# Altium integrated library Memory - EEPROM.IntLib: 163 symbols (part 2 of 3)
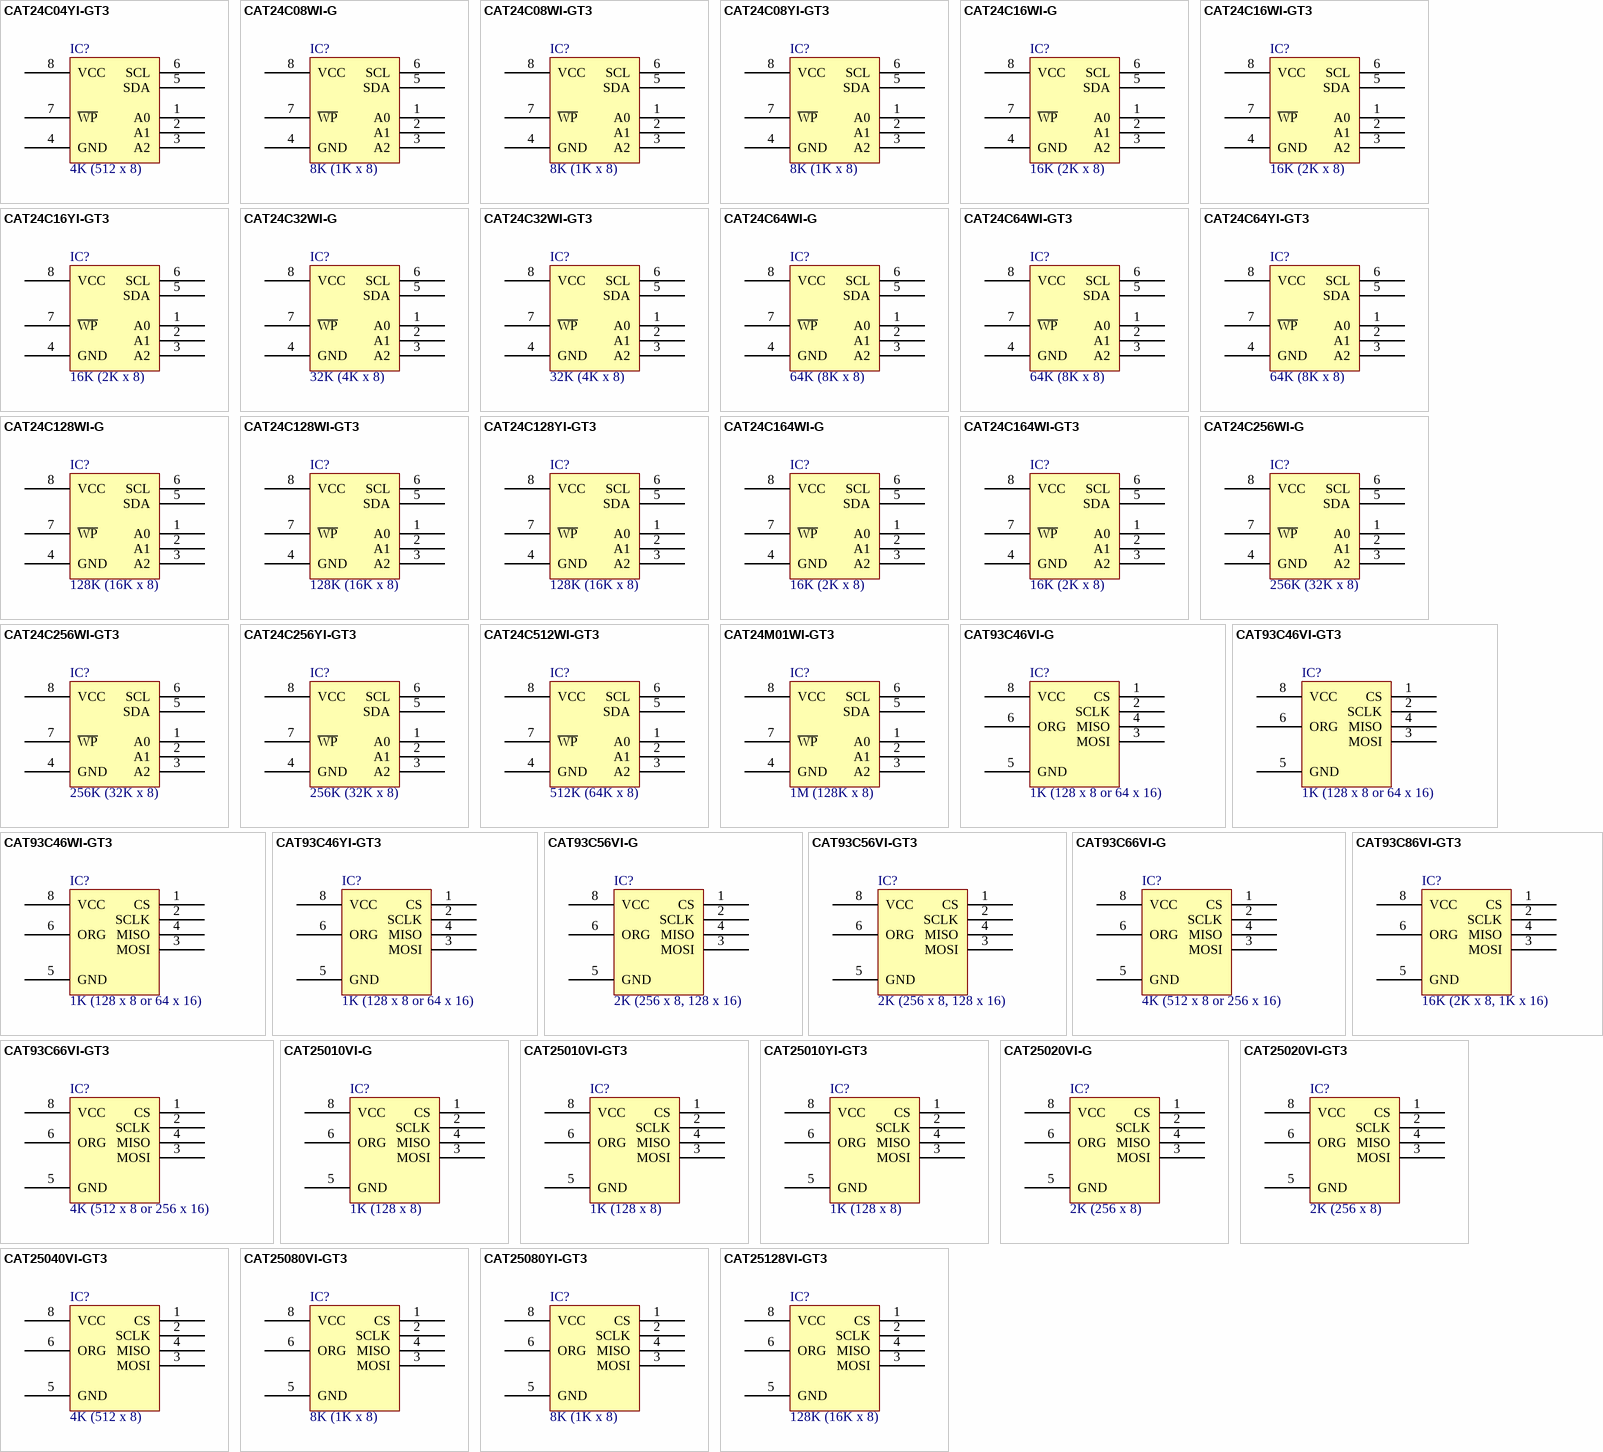
[diagram p5: symbols CAT24C04YI-GT3 to CAT25128VI-GT3]

## CAT24C512WI-GT3
designator IC?, comment 512K (64K x 8)
IC EEPROM 512KBIT 1MHZ 8SOIC; Part Number: CAT24C512WI-GT3; Manufacturer: ON Semiconductor; Speed: 100kHz, 400kHz, 1MHz; Interface: IC, 2-Wire Serial; Voltage - Supply: 1.8 V ~ 5.5 V; PartId: 8378; Supplier 1: Digi-Key; Supplier Part Number 1: CAT24C512WI-GT3OSTR-ND; ComponentLink1Description: Datasheet; ComponentLink1URL: http://www.onsemi.com/pub_link/Collateral/CAT24C512-D.PDF; ComponentLink2Description: Digi-Key Listing; ComponentLink2URL: http://www.digikey.com/product-detail/en/CAT24C512WI-GT3/CAT24C512WI-GT3OSTR-ND/2683757; Price: 0.4186; Type: EEPROM; Device Package: 8-SOIC (0.154", 3.90mm Width); Operating Temperature: -40C ~ 85C; Memory Type: EEPROM; Memory Size: 512K (64K x 8)
footprint ON SEMI SO-8
pins: 1 A0, 2 A1, 3 A2, 4 GND, 5 SDA, 6 SCL, 7 ~{WP}, 8 VCC

## CAT24M01WI-GT3
designator IC?, comment 1M (128K x 8)
IC EEPROM 1MBIT 1MHZ 8SOIC; Part Number: CAT24M01WI-GT3; Manufacturer: ON Semiconductor; Speed: 100kHz, 400kHz, 1MHz; Interface: IC, 2-Wire Serial; Voltage - Supply: 1.8 V ~ 5.5 V; PartId: 8381; Supplier 1: Digi-Key; Supplier Part Number 1: CAT24M01WI-GT3OSTR-ND; ComponentLink1Description: Datasheet; ComponentLink1URL: http://www.onsemi.com/pub_link/Collateral/CAT24M01-D.PDF; ComponentLink2Description: Digi-Key Listing; ComponentLink2URL: http://www.digikey.com/product-detail/en/CAT24M01WI-GT3/CAT24M01WI-GT3OSTR-ND/2698334; Price: 0.8073; Type: EEPROM; Device Package: 8-SOIC (0.154", 3.90mm Width); Operating Temperature: -40C ~ 85C; Memory Type: EEPROM; Memory Size: 1M (128K x 8)
footprint ON SEMI SO-8
pins: 1 A0, 2 A1, 3 A2, 4 GND, 5 SDA, 6 SCL, 7 ~{WP}, 8 VCC

## CAT93C46VI-G
designator IC?, comment 1K (128 x 8 or 64 x 16)
IC EEPROM 1KBIT 2MHZ 8SOIC; Part Number: CAT93C46VI-G; Manufacturer: ON Semiconductor; Interface: Microwire, 3-Wire Serial; Voltage - Supply: 1.8 V ~ 5.5 V; PartId: 8409; Supplier 1: Digi-Key; Supplier Part Number 1: CAT93C46VI-G-ND; ComponentLink1Description: Datasheet; ComponentLink1URL: http://www.onsemi.com/pub_link/Collateral/CAT93C46-D.PDF; ComponentLink2Description: Digi-Key Listing; ComponentLink2URL: http://www.digikey.com/product-detail/en/CAT93C46VI-G/CAT93C46VI-G-ND/2061039; Price: 0.4; Type: EEPROM; Device Package: 8-SOIC (0.154", 3.90mm Width); Operating Temperature: -40C ~ 85C; Memory Type: EEPROM; Memory Size: 1K (128 x 8 or 64 x 16); Speed: 2MHz
footprint ON SEMI SO-8
pins: 1 CS, 2 SCLK, 3 MOSI, 4 MISO, 5 GND, 6 ORG, 8 VCC

## CAT93C46VI-GT3
designator IC?, comment 1K (128 x 8 or 64 x 16)
IC EEPROM 1KBIT 2MHZ 8SOIC; Part Number: CAT93C46VI-GT3; Manufacturer: ON Semiconductor; Interface: Microwire, 3-Wire Serial; Voltage - Supply: 1.8 V ~ 5.5 V; PartId: 8400; Supplier 1: Digi-Key; Supplier Part Number 1: CAT93C46VI-GT3TR-ND; ComponentLink1Description: Datasheet; ComponentLink1URL: http://www.onsemi.com/pub_link/Collateral/CAT93C46-D.PDF; ComponentLink2Description: Digi-Key Listing; ComponentLink2URL: http://www.digikey.com/product-detail/en/CAT93C46VI-GT3/CAT93C46VI-GT3TR-ND/1631112; Price: 0.1082; Type: EEPROM; Device Package: 8-SOIC (0.154", 3.90mm Width); Operating Temperature: -40C ~ 85C; Memory Type: EEPROM; Memory Size: 1K (128 x 8 or 64 x 16); Speed: 2MHz
footprint ON SEMI SO-8
pins: 1 CS, 2 SCLK, 3 MOSI, 4 MISO, 5 GND, 6 ORG, 8 VCC

## CAT93C46WI-GT3
designator IC?, comment 1K (128 x 8 or 64 x 16)
IC EEPROM 1KBIT 2MHZ 8SOIC; Part Number: CAT93C46WI-GT3; Manufacturer: ON Semiconductor; Interface: Microwire, 3-Wire Serial; Voltage - Supply: 1.8 V ~ 5.5 V; PartId: 8401; Supplier 1: Digi-Key; Supplier Part Number 1: CAT93C46WI-GT3TR-ND; ComponentLink1Description: Datasheet; ComponentLink1URL: http://www.onsemi.com/pub_link/Collateral/CAT93C46-D.PDF; ComponentLink2Description: Digi-Key Listing; ComponentLink2URL: http://www.digikey.com/product-detail/en/CAT93C46WI-GT3/CAT93C46WI-GT3TR-ND/1631113; Price: 0.1082; Type: EEPROM; Device Package: 8-SOIC (0.154", 3.90mm Width); Operating Temperature: -40C ~ 85C; Memory Type: EEPROM; Memory Size: 1K (128 x 8 or 64 x 16); Speed: 2MHz
footprint ON SEMI SO-8
pins: 1 CS, 2 SCLK, 3 MOSI, 4 MISO, 5 GND, 6 ORG, 8 VCC

## CAT93C46YI-GT3
designator IC?, comment 1K (128 x 8 or 64 x 16)
IC EEPROM 1KBIT 2MHZ 8TSSOP; Part Number: CAT93C46YI-GT3; Manufacturer: ON Semiconductor; Interface: Microwire, 3-Wire Serial; Voltage - Supply: 1.8 V ~ 5.5 V; PartId: 8440; Supplier 1: Digi-Key; Supplier Part Number 1: CAT93C46YI-GT3OSTR-ND; ComponentLink1Description: Datasheet; ComponentLink1URL: http://www.onsemi.com/pub_link/Collateral/CAT93C46-D.PDF; ComponentLink2Description: Digi-Key Listing; ComponentLink2URL: http://www.digikey.com/product-detail/en/CAT93C46YI-GT3/CAT93C46YI-GT3OSTR-ND/2063388; Price: 0.1082; Type: EEPROM; Device Package: 8-TSSOP (0.173", 4.40mm Width); Operating Temperature: -40C ~ 85C; Memory Type: EEPROM; Memory Size: 1K (128 x 8 or 64 x 16); Speed: 2MHz
footprint ON SEMI TSSOP-8
pins: 1 CS, 2 SCLK, 3 MOSI, 4 MISO, 5 GND, 6 ORG, 8 VCC

## CAT93C56VI-G
designator IC?, comment 2K (256 x 8, 128 x 16)
IC EEPROM 2KBIT 2MHZ 8SOIC; Part Number: CAT93C56VI-G; Manufacturer: ON Semiconductor; Interface: Microwire, 3-Wire Serial; Voltage - Supply: 1.8 V ~ 5.5 V; PartId: 8413; Supplier 1: Digi-Key; Supplier Part Number 1: CAT93C56VI-GOS-ND; ComponentLink1Description: Datasheet; ComponentLink1URL: http://www.onsemi.com/pub_link/Collateral/CAT93C56-D.PDF; ComponentLink2Description: Digi-Key Listing; ComponentLink2URL: http://www.digikey.com/product-detail/en/CAT93C56VI-G/CAT93C56VI-GOS-ND/1770694; Price: 0.49; Type: EEPROM; Device Package: 8-SOIC (0.154", 3.90mm Width); Operating Temperature: -40C ~ 85C; Memory Type: EEPROM; Memory Size: 2K (256 x 8, 128 x 16); Speed: 2MHz
footprint ON SEMI SO-8
pins: 1 CS, 2 SCLK, 3 MOSI, 4 MISO, 5 GND, 6 ORG, 8 VCC

## CAT93C56VI-GT3
designator IC?, comment 2K (256 x 8, 128 x 16)
IC EEPROM 2KBIT 2MHZ 8SOIC; Part Number: CAT93C56VI-GT3; Manufacturer: ON Semiconductor; Interface: Microwire, 3-Wire Serial; Voltage - Supply: 1.8 V ~ 5.5 V; PartId: 8403; Supplier 1: Digi-Key; Supplier Part Number 1: CAT93C56VI-GT3OSTR-ND; ComponentLink1Description: Datasheet; ComponentLink1URL: http://www.onsemi.com/pub_link/Collateral/CAT93C56-D.PDF; ComponentLink2Description: Digi-Key Listing; ComponentLink2URL: http://www.digikey.com/product-detail/en/CAT93C56VI-GT3/CAT93C56VI-GT3OSTR-ND/1770695; Price: 0.1328; Type: EEPROM; Device Package: 8-SOIC (0.154", 3.90mm Width); Operating Temperature: -40C ~ 85C; Memory Type: EEPROM; Memory Size: 2K (256 x 8, 128 x 16); Speed: 2MHz
footprint ON SEMI SO-8
pins: 1 CS, 2 SCLK, 3 MOSI, 4 MISO, 5 GND, 6 ORG, 8 VCC

## CAT93C66VI-G
designator IC?, comment 4K (512 x 8 or 256 x 16)
IC EEPROM 4KBIT 2MHZ 8SOIC; Part Number: CAT93C66VI-G; Manufacturer: ON Semiconductor; Interface: Microwire, 3-Wire Serial; Voltage - Supply: 1.8 V ~ 5.5 V; PartId: 8414; Supplier 1: Digi-Key; Supplier Part Number 1: CAT93C66VI-GOS-ND; ComponentLink1Description: Datasheet; ComponentLink1URL: http://www.onsemi.com/pub_link/Collateral/CAT93C66-D.PDF; ComponentLink2Description: Digi-Key Listing; ComponentLink2URL: http://www.digikey.com/product-detail/en/CAT93C66VI-G/CAT93C66VI-GOS-ND/2061042; Price: 0.53; Type: EEPROM; Device Package: 8-SOIC (0.154", 3.90mm Width); Operating Temperature: -40C ~ 85C; Memory Type: EEPROM; Memory Size: 4K (512 x 8 or 256 x 16); Speed: 2MHz
footprint ON SEMI SO-8
pins: 1 CS, 2 SCLK, 3 MOSI, 4 MISO, 5 GND, 6 ORG, 8 VCC

## CAT93C66VI-GT3
designator IC?, comment 4K (512 x 8 or 256 x 16)
IC EEPROM 4KBIT 2MHZ 8SOIC; Part Number: CAT93C66VI-GT3; Manufacturer: ON Semiconductor; Interface: Microwire, 3-Wire Serial; Voltage - Supply: 1.8 V ~ 5.5 V; PartId: 8406; Supplier 1: Digi-Key; Supplier Part Number 1: CAT93C66VI-GT3OSTR-ND; ComponentLink1Description: Datasheet; ComponentLink1URL: http://www.onsemi.com/pub_link/Collateral/CAT93C66-D.PDF; ComponentLink2Description: Digi-Key Listing; ComponentLink2URL: http://www.digikey.com/product-detail/en/CAT93C66VI-GT3/CAT93C66VI-GT3OSTR-ND/1631117; Price: 0.1424; Type: EEPROM; Device Package: 8-SOIC (0.154", 3.90mm Width); Operating Temperature: -40C ~ 85C; Memory Type: EEPROM; Memory Size: 4K (512 x 8 or 256 x 16); Speed: 2MHz
footprint ON SEMI SO-8
pins: 1 CS, 2 SCLK, 3 MOSI, 4 MISO, 5 GND, 6 ORG, 8 VCC

## CAT93C86VI-GT3
designator IC?, comment 16K (2K x 8, 1K x 16)
IC EEPROM 16KBIT 3MHZ 8SOIC; Part Number: CAT93C86VI-GT3; Manufacturer: ON Semiconductor; Interface: Microwire, 3-Wire Serial; Voltage - Supply: 2.5 V ~ 5.5 V; PartId: 8410; Supplier 1: Digi-Key; Supplier Part Number 1: CAT93C86VI-GT3TR-ND; ComponentLink1Description: Datasheet; ComponentLink1URL: http://www.onsemi.com/PowerSolutions/product.do?id=CAT93C86&pdf=Y; ComponentLink2Description: Digi-Key Listing; ComponentLink2URL: http://www.digikey.com/product-detail/en/CAT93C86VI-GT3/CAT93C86VI-GT3TR-ND/1631120; Price: 0.1782; Type: EEPROM; Device Package: 8-SOIC (0.154", 3.90mm Width); Operating Temperature: -40C ~ 85C; Memory Type: EEPROM; Memory Size: 16K (2K x 8, 1K x 16); Speed: 3MHz
footprint ON SEMI SO-8
pins: 1 CS, 2 SCLK, 3 MOSI, 4 MISO, 5 GND, 6 ORG, 8 VCC

## CAT25010VI-G
designator IC?, comment 1K (128 x 8)
IC EEPROM 1KBIT 20MHZ 8SOIC; Part Number: CAT25010VI-G; Manufacturer: ON Semiconductor; Interface: SPI Serial; Voltage - Supply: 1.8 V ~ 5.5 V; PartId: 8412; Supplier 1: Digi-Key; Supplier Part Number 1: CAT25010VI-G-ND; ComponentLink1Description: Datasheet; ComponentLink1URL: http://www.onsemi.com/pub_link/Collateral/CAT25010-D.PDF; ComponentLink2Description: Digi-Key Listing; ComponentLink2URL: http://www.digikey.com/product-detail/en/CAT25010VI-G/CAT25010VI-G-ND/2061013; Price: 0.49; Type: EEPROM; Device Package: 8-SOIC (0.154", 3.90mm Width); Operating Temperature: -40C ~ 85C; Memory Type: EEPROM; Memory Size: 1K (128 x 8); Speed: 20MHz
footprint ON SEMI SO-8
pins: 1 CS, 2 SCLK, 3 MOSI, 4 MISO, 5 GND, 6 ORG, 8 VCC

## CAT25010VI-GT3
designator IC?, comment 1K (128 x 8)
IC EEPROM 1KBIT 20MHZ 8SOIC; Part Number: CAT25010VI-GT3; Manufacturer: ON Semiconductor; Interface: SPI Serial; Voltage - Supply: 1.8 V ~ 5.5 V; PartId: 8402; Supplier 1: Digi-Key; Supplier Part Number 1: CAT25010VI-GT3TR-ND; ComponentLink1Description: Datasheet; ComponentLink1URL: http://www.onsemi.com/pub_link/Collateral/CAT25010-D.PDF; ComponentLink2Description: Digi-Key Listing; ComponentLink2URL: http://www.digikey.com/product-detail/en/CAT25010VI-GT3/CAT25010VI-GT3TR-ND/1631013; Price: 0.129; Type: EEPROM; Device Package: 8-SOIC (0.154", 3.90mm Width); Operating Temperature: -40C ~ 85C; Memory Type: EEPROM; Memory Size: 1K (128 x 8); Speed: 20MHz
footprint ON SEMI SO-8
pins: 1 CS, 2 SCLK, 3 MOSI, 4 MISO, 5 GND, 6 ORG, 8 VCC

## CAT25010YI-GT3
designator IC?, comment 1K (128 x 8)
IC EEPROM 1KBIT 20MHZ 8TSSOP; Part Number: CAT25010YI-GT3; Manufacturer: ON Semiconductor; Interface: SPI Serial; Voltage - Supply: 1.8 V ~ 5.5 V; PartId: 8437; Supplier 1: Digi-Key; Supplier Part Number 1: CAT25010YI-GT3TR-ND; ComponentLink1Description: Datasheet; ComponentLink1URL: http://www.onsemi.com/pub_link/Collateral/CAT25010-D.PDF; ComponentLink2Description: Digi-Key Listing; ComponentLink2URL: http://www.digikey.com/product-detail/en/CAT25010YI-GT3/CAT25010YI-GT3TR-ND/1631014; Price: 0.129; Type: EEPROM; Device Package: 8-TSSOP (0.173", 4.40mm Width); Operating Temperature: -40C ~ 85C; Memory Type: EEPROM; Memory Size: 1K (128 x 8); Speed: 20MHz
footprint ON SEMI TSSOP-8
pins: 1 CS, 2 SCLK, 3 MOSI, 4 MISO, 5 GND, 6 ORG, 8 VCC

## CAT25020VI-G
designator IC?, comment 2K (256 x 8)
IC EEPROM 2KBIT 20MHZ 8SOIC; Part Number: CAT25020VI-G; Manufacturer: ON Semiconductor; Interface: SPI Serial; Voltage - Supply: 1.8 V ~ 5.5 V; PartId: 8411; Supplier 1: Digi-Key; Supplier Part Number 1: CAT25020VI-G-ND; ComponentLink1Description: Datasheet; ComponentLink1URL: http://www.onsemi.com/pub_link/Collateral/CAT25010-D.PDF; ComponentLink2Description: Digi-Key Listing; ComponentLink2URL: http://www.digikey.com/product-detail/en/CAT25020VI-G/CAT25020VI-G-ND/2061015; Price: 0.47; Type: EEPROM; Device Package: 8-SOIC (0.154", 3.90mm Width); Operating Temperature: -40C ~ 85C; Memory Type: EEPROM; Memory Size: 2K (256 x 8); Speed: 20MHz
footprint ON SEMI SO-8
pins: 1 CS, 2 SCLK, 3 MOSI, 4 MISO, 5 GND, 6 ORG, 8 VCC

## CAT25020VI-GT3
designator IC?, comment 2K (256 x 8)
IC EEPROM 2KBIT 20MHZ 8SOIC; Part Number: CAT25020VI-GT3; Manufacturer: ON Semiconductor; Interface: SPI Serial; Voltage - Supply: 1.8 V ~ 5.5 V; PartId: 8404; Supplier 1: Digi-Key; Supplier Part Number 1: CAT25020VI-GT3OSTR-ND; ComponentLink1Description: Datasheet; ComponentLink1URL: http://www.onsemi.com/pub_link/Collateral/CAT25010-D.PDF; ComponentLink2Description: Digi-Key Listing; ComponentLink2URL: http://www.digikey.com/product-detail/en/CAT25020VI-GT3/CAT25020VI-GT3OSTR-ND/1631016; Price: 0.1328; Type: EEPROM; Device Package: 8-SOIC (0.154", 3.90mm Width); Operating Temperature: -40C ~ 85C; Memory Type: EEPROM; Memory Size: 2K (256 x 8); Speed: 20MHz
footprint ON SEMI SO-8
pins: 1 CS, 2 SCLK, 3 MOSI, 4 MISO, 5 GND, 6 ORG, 8 VCC

## CAT25040VI-GT3
designator IC?, comment 4K (512 x 8)
IC EEPROM 4KBIT 20MHZ 8SOIC; Part Number: CAT25040VI-GT3; Manufacturer: ON Semiconductor; Interface: SPI Serial; Voltage - Supply: 1.8 V ~ 5.5 V; PartId: 8405; Supplier 1: Digi-Key; Supplier Part Number 1: CAT25040VI-GT3TR-ND; ComponentLink1Description: Datasheet; ComponentLink1URL: http://www.onsemi.com/pub_link/Collateral/CAT25010-D.PDF; ComponentLink2Description: Digi-Key Listing; ComponentLink2URL: http://www.digikey.com/product-detail/en/CAT25040VI-GT3/CAT25040VI-GT3TR-ND/1631019; Price: 0.1424; Type: EEPROM; Device Package: 8-SOIC (0.154", 3.90mm Width); Operating Temperature: -40C ~ 85C; Memory Type: EEPROM; Memory Size: 4K (512 x 8); Speed: 20MHz
footprint ON SEMI SO-8
pins: 1 CS, 2 SCLK, 3 MOSI, 4 MISO, 5 GND, 6 ORG, 8 VCC

## CAT25080VI-GT3
designator IC?, comment 8K (1K x 8)
IC EEPROM 8KBIT 20MHZ 8SOIC; Part Number: CAT25080VI-GT3; Manufacturer: ON Semiconductor; Interface: SPI Serial; Voltage - Supply: 1.8 V ~ 5.5 V; PartId: 8407; Supplier 1: Digi-Key; Supplier Part Number 1: CAT25080VI-GT3OSTR-ND; ComponentLink1Description: Datasheet; ComponentLink1URL: http://www.onsemi.com/pub_link/Collateral/CAT25080-D.PDF; ComponentLink2Description: Digi-Key Listing; ComponentLink2URL: http://www.digikey.com/product-detail/en/CAT25080VI-GT3/CAT25080VI-GT3OSTR-ND/1631022; Price: 0.1426; Type: EEPROM; Device Package: 8-SOIC (0.154", 3.90mm Width); Operating Temperature: -40C ~ 85C; Memory Type: EEPROM; Memory Size: 8K (1K x 8); Speed: 20MHz
footprint ON SEMI SO-8
pins: 1 CS, 2 SCLK, 3 MOSI, 4 MISO, 5 GND, 6 ORG, 8 VCC

## CAT25080YI-GT3
designator IC?, comment 8K (1K x 8)
IC EEPROM 8KBIT 20MHZ 8TSSOP; Part Number: CAT25080YI-GT3; Manufacturer: ON Semiconductor; Interface: SPI Serial; Voltage - Supply: 1.8 V ~ 5.5 V; PartId: 8434; Supplier 1: Digi-Key; Supplier Part Number 1: CAT25080YI-GT3TR-ND; ComponentLink1Description: Datasheet; ComponentLink1URL: http://www.onsemi.com/pub_link/Collateral/CAT25080-D.PDF; ComponentLink2Description: Digi-Key Listing; ComponentLink2URL: http://www.digikey.com/product-detail/en/CAT25080YI-GT3/CAT25080YI-GT3TR-ND/1631023; Price: 0.1426; Type: EEPROM; Device Package: 8-TSSOP (0.173", 4.40mm Width); Operating Temperature: -40C ~ 85C; Memory Type: EEPROM; Memory Size: 8K (1K x 8); Speed: 20MHz
footprint ON SEMI TSSOP-8
pins: 1 CS, 2 SCLK, 3 MOSI, 4 MISO, 5 GND, 6 ORG, 8 VCC

## CAT25128VI-GT3
designator IC?, comment 128K (16K x 8)
IC EEPROM 128KBIT 10MHZ 8SOIC; Part Number: CAT25128VI-GT3; Manufacturer: ON Semiconductor; Interface: SPI Serial; Voltage - Supply: 1.8 V ~ 5.5 V; PartId: 8418; Supplier 1: Digi-Key; Supplier Part Number 1: CAT25128VI-GT3OSTR-ND; ComponentLink1Description: Datasheet; ComponentLink1URL: http://www.onsemi.com/pub_link/Collateral/CAT25128-D.PDF; ComponentLink2Description: Digi-Key Listing; ComponentLink2URL: http://www.digikey.com/product-detail/en/CAT25128VI-GT3/CAT25128VI-GT3OSTR-ND/2063309; Price: 0.3168; Type: EEPROM; Device Package: 8-SOIC (0.154", 3.90mm Width); Operating Temperature: -40C ~ 85C; Memory Type: EEPROM; Memory Size: 128K (16K x 8); Speed: 10MHz
footprint ON SEMI SO-8
pins: 1 CS, 2 SCLK, 3 MOSI, 4 MISO, 5 GND, 6 ORG, 8 VCC

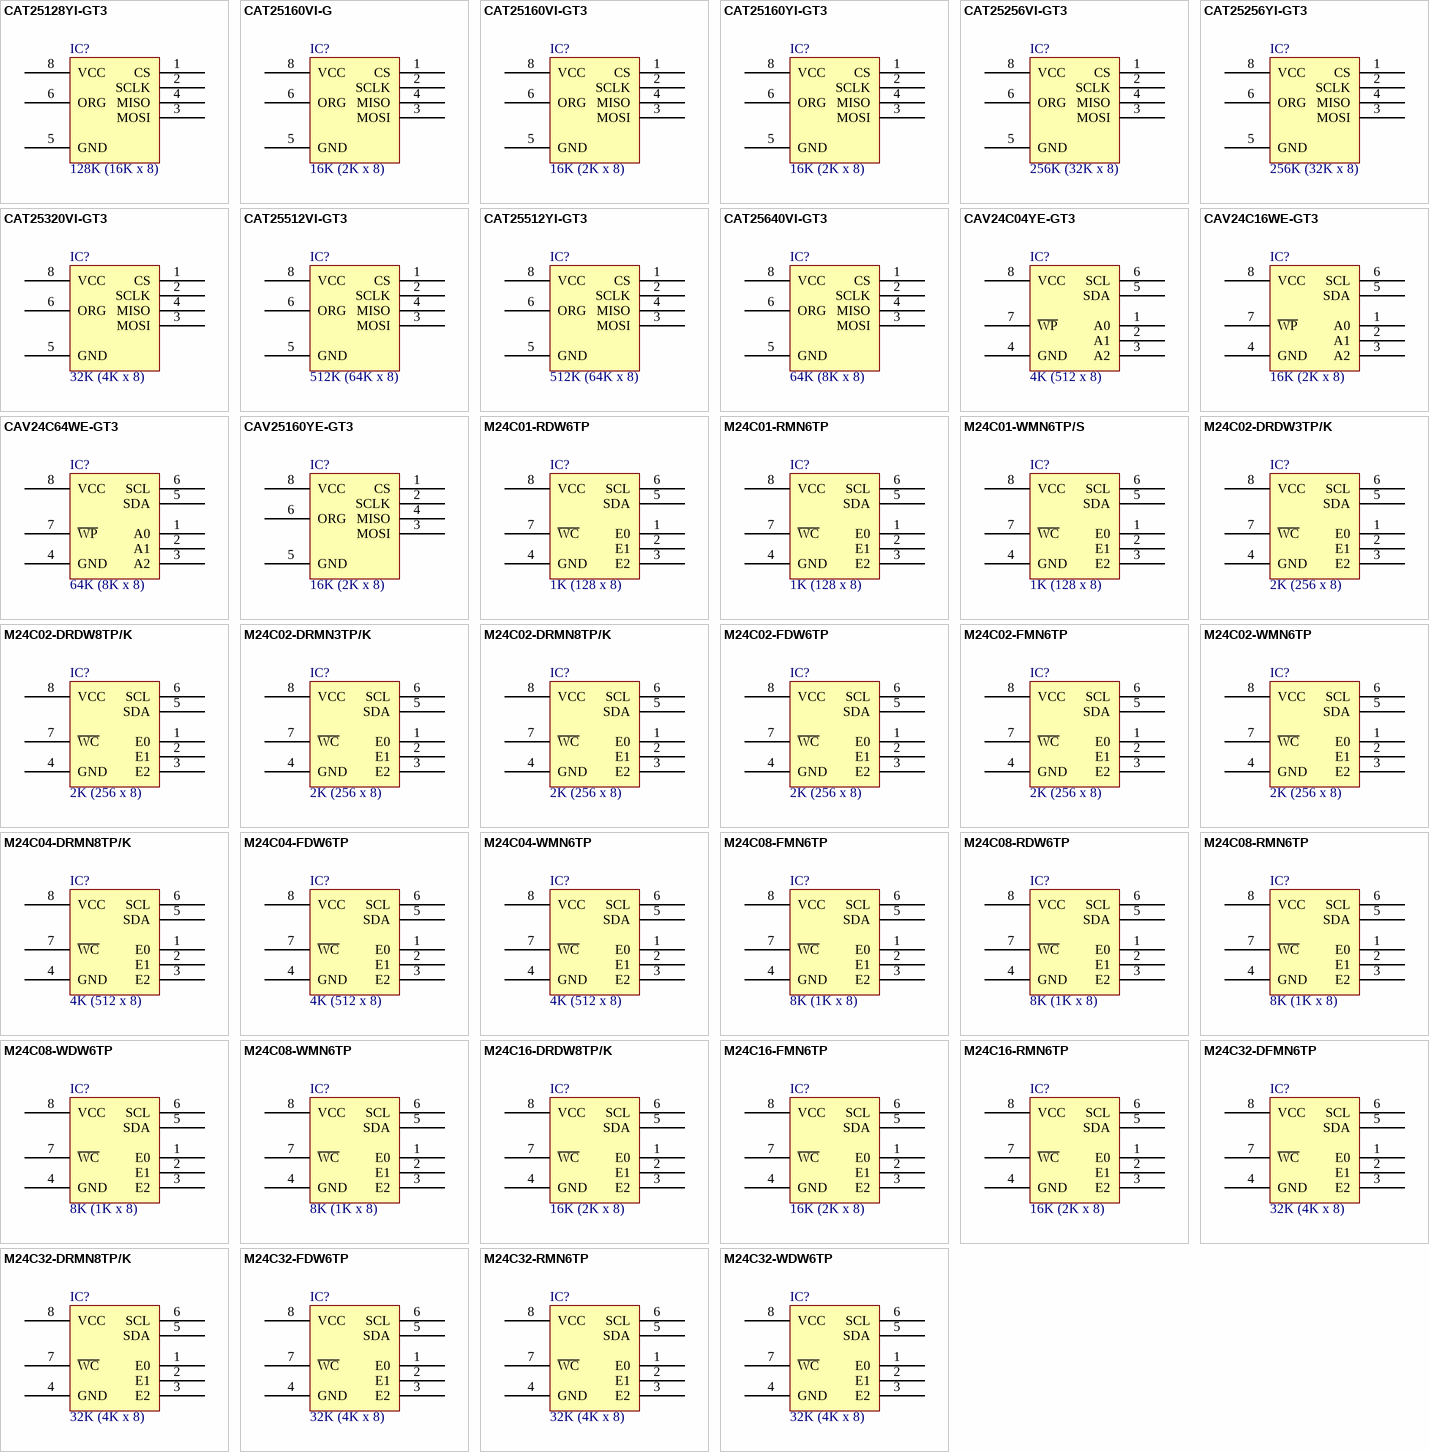
[diagram p2: symbols CAT25128YI-GT3 to M24C32-WDW6TP]

## CAT25128YI-GT3
designator IC?, comment 128K (16K x 8)
IC EEPROM 128KBIT 10MHZ 8TSSOP; Part Number: CAT25128YI-GT3; Manufacturer: ON Semiconductor; Interface: SPI Serial; Voltage - Supply: 1.8 V ~ 5.5 V; PartId: 8439; Supplier 1: Digi-Key; Supplier Part Number 1: CAT25128YI-GT3OSTR-ND; ComponentLink1Description: Datasheet; ComponentLink1URL: http://www.onsemi.com/pub_link/Collateral/CAT25128-D.PDF; ComponentLink2Description: Digi-Key Listing; ComponentLink2URL: http://www.digikey.com/product-detail/en/CAT25128YI-GT3/CAT25128YI-GT3OSTR-ND/2194048; Price: 0.3168; Type: EEPROM; Device Package: 8-TSSOP (0.173", 4.40mm Width); Operating Temperature: -40C ~ 85C; Memory Type: EEPROM; Memory Size: 128K (16K x 8); Speed: 10MHz
footprint ON SEMI TSSOP-8
pins: 1 CS, 2 SCLK, 3 MOSI, 4 MISO, 5 GND, 6 ORG, 8 VCC

## CAT25160VI-G
designator IC?, comment 16K (2K x 8)
IC EEPROM 16KBIT 20MHZ 8SOIC; Part Number: CAT25160VI-G; Manufacturer: ON Semiconductor; Interface: SPI Serial; Voltage - Supply: 1.8 V ~ 5.5 V; PartId: 8415; Supplier 1: Digi-Key; Supplier Part Number 1: CAT25160VI-GOS-ND; ComponentLink1Description: Datasheet; ComponentLink1URL: http://www.onsemi.com/pub_link/Collateral/CAT25080-D.PDF; ComponentLink2Description: Digi-Key Listing; ComponentLink2URL: http://www.digikey.com/product-detail/en/CAT25160VI-G/CAT25160VI-GOS-ND/2061019; Price: 0.55; Type: EEPROM; Device Package: 8-SOIC (0.154", 3.90mm Width); Operating Temperature: -40C ~ 85C; Memory Type: EEPROM; Memory Size: 16K (2K x 8); Speed: 20MHz
footprint ON SEMI SO-8
pins: 1 CS, 2 SCLK, 3 MOSI, 4 MISO, 5 GND, 6 ORG, 8 VCC

## CAT25160VI-GT3
designator IC?, comment 16K (2K x 8)
IC EEPROM 16KBIT 20MHZ 8SOIC; Part Number: CAT25160VI-GT3; Manufacturer: ON Semiconductor; Interface: SPI Serial; Voltage - Supply: 1.8 V ~ 5.5 V; PartId: 8408; Supplier 1: Digi-Key; Supplier Part Number 1: CAT25160VI-GT3TR-ND; ComponentLink1Description: Datasheet; ComponentLink1URL: http://www.onsemi.com/pub_link/Collateral/CAT25080-D.PDF; ComponentLink2Description: Digi-Key Listing; ComponentLink2URL: http://www.digikey.com/product-detail/en/CAT25160VI-GT3/CAT25160VI-GT3TR-ND/1631024; Price: 0.1461; Type: EEPROM; Device Package: 8-SOIC (0.154", 3.90mm Width); Operating Temperature: -40C ~ 85C; Memory Type: EEPROM; Memory Size: 16K (2K x 8); Speed: 20MHz
footprint ON SEMI SO-8
pins: 1 CS, 2 SCLK, 3 MOSI, 4 MISO, 5 GND, 6 ORG, 8 VCC

## CAT25160YI-GT3
designator IC?, comment 16K (2K x 8)
IC EEPROM 16KBIT 20MHZ 8TSSOP; Part Number: CAT25160YI-GT3; Manufacturer: ON Semiconductor; Interface: SPI Serial; Voltage - Supply: 1.8 V ~ 5.5 V; PartId: 8438; Supplier 1: Digi-Key; Supplier Part Number 1: CAT25160YI-GT3OSTR-ND; ComponentLink1Description: Datasheet; ComponentLink1URL: http://www.onsemi.com/pub_link/Collateral/CAT25080-D.PDF; ComponentLink2Description: Digi-Key Listing; ComponentLink2URL: http://www.digikey.com/product-detail/en/CAT25160YI-GT3/CAT25160YI-GT3OSTR-ND/1631025; Price: 0.1461; Type: EEPROM; Device Package: 8-TSSOP (0.173", 4.40mm Width); Operating Temperature: -40C ~ 85C; Memory Type: EEPROM; Memory Size: 16K (2K x 8); Speed: 20MHz
footprint ON SEMI TSSOP-8
pins: 1 CS, 2 SCLK, 3 MOSI, 4 MISO, 5 GND, 6 ORG, 8 VCC

## CAT25256VI-GT3
designator IC?, comment 256K (32K x 8)
IC EEPROM 256KBIT 10MHZ 8SOIC; Part Number: CAT25256VI-GT3; Manufacturer: ON Semiconductor; Interface: SPI Serial; Voltage - Supply: 1.8 V ~ 5.5 V; PartId: 8419; Supplier 1: Digi-Key; Supplier Part Number 1: CAT25256VI-GT3OSTR-ND; ComponentLink1Description: Datasheet; ComponentLink1URL: http://www.onsemi.com/pub_link/Collateral/CAT25256-D.PDF; ComponentLink2Description: Digi-Key Listing; ComponentLink2URL: http://www.digikey.com/product-detail/en/CAT25256VI-GT3/CAT25256VI-GT3OSTR-ND/2193960; Price: 0.3542; Type: EEPROM; Device Package: 8-SOIC (0.154", 3.90mm Width); Operating Temperature: -40C ~ 85C; Memory Type: EEPROM; Memory Size: 256K (32K x 8); Speed: 10MHz
footprint ON SEMI SO-8
pins: 1 CS, 2 SCLK, 3 MOSI, 4 MISO, 5 GND, 6 ORG, 8 VCC

## CAT25256YI-GT3
designator IC?, comment 256K (32K x 8)
IC EEPROM 256KBIT 10MHZ 8TSSOP; Part Number: CAT25256YI-GT3; Manufacturer: ON Semiconductor; Interface: SPI Serial; Voltage - Supply: 1.8 V ~ 5.5 V; PartId: 8435; Supplier 1: Digi-Key; Supplier Part Number 1: CAT25256YI-GT3OSTR-ND; ComponentLink1Description: Datasheet; ComponentLink1URL: http://www.onsemi.com/pub_link/Collateral/CAT25256-D.PDF; ComponentLink2Description: Digi-Key Listing; ComponentLink2URL: http://www.digikey.com/product-detail/en/CAT25256YI-GT3/CAT25256YI-GT3OSTR-ND/2193870; Price: 0.3542; Type: EEPROM; Device Package: 8-TSSOP (0.173", 4.40mm Width); Operating Temperature: -40C ~ 85C; Memory Type: EEPROM; Memory Size: 256K (32K x 8); Speed: 10MHz
footprint ON SEMI TSSOP-8
pins: 1 CS, 2 SCLK, 3 MOSI, 4 MISO, 5 GND, 6 ORG, 8 VCC

## CAT25320VI-GT3
designator IC?, comment 32K (4K x 8)
IC EEPROM 32KBIT 10MHZ 8SOIC; Part Number: CAT25320VI-GT3; Manufacturer: ON Semiconductor; Interface: SPI Serial; Voltage - Supply: 1.8 V ~ 5.5 V; PartId: 8416; Supplier 1: Digi-Key; Supplier Part Number 1: CAT25320VI-GT3TR-ND; ComponentLink1Description: Datasheet; ComponentLink1URL: http://www.onsemi.com/pub_link/Collateral/CAT25320-D.PDF; ComponentLink2Description: Digi-Key Listing; ComponentLink2URL: http://www.digikey.com/product-detail/en/CAT25320VI-GT3/CAT25320VI-GT3TR-ND/1631027; Price: 0.2228; Type: EEPROM; Device Package: 8-SOIC (0.154", 3.90mm Width); Operating Temperature: -40C ~ 85C; Memory Type: EEPROM; Memory Size: 32K (4K x 8); Speed: 10MHz
footprint ON SEMI SO-8
pins: 1 CS, 2 SCLK, 3 MOSI, 4 MISO, 5 GND, 6 ORG, 8 VCC

## CAT25512VI-GT3
designator IC?, comment 512K (64K x 8)
IC EEPROM 512KBIT 20MHZ 8SOIC; Part Number: CAT25512VI-GT3; Manufacturer: ON Semiconductor; Interface: SPI Serial; Voltage - Supply: 1.8 V ~ 5.5 V; PartId: 8420; Supplier 1: Digi-Key; Supplier Part Number 1: CAT25512VI-GT3OSTR-ND; ComponentLink1Description: Datasheet; ComponentLink1URL: http://www.onsemi.com/pub/Collateral/CAT25512-D.PDF; ComponentLink2Description: Digi-Key Listing; ComponentLink2URL: http://www.digikey.com/product-detail/en/CAT25512VI-GT3/CAT25512VI-GT3OSTR-ND/3198036; Price: 0.5635; Type: EEPROM; Device Package: 8-SOIC (0.154", 3.90mm Width); Operating Temperature: -40C ~ 85C; Memory Type: EEPROM; Memory Size: 512K (64K x 8); Speed: 20MHz
footprint ON SEMI SO-8
pins: 1 CS, 2 SCLK, 3 MOSI, 4 MISO, 5 GND, 6 ORG, 8 VCC

## CAT25512YI-GT3
designator IC?, comment 512K (64K x 8)
IC EEPROM 512KBIT 20MHZ 8TSSOP; Part Number: CAT25512YI-GT3; Manufacturer: ON Semiconductor; Interface: SPI Serial; Voltage - Supply: 1.8 V ~ 5.5 V; PartId: 8436; Supplier 1: Digi-Key; Supplier Part Number 1: CAT25512YI-GT3OSTR-ND; ComponentLink1Description: Datasheet; ComponentLink1URL: http://www.onsemi.com/pub/Collateral/CAT25512-D.PDF; ComponentLink2Description: Digi-Key Listing; ComponentLink2URL: http://www.digikey.com/product-detail/en/CAT25512YI-GT3/CAT25512YI-GT3OSTR-ND/3198037; Price: 0.5635; Type: EEPROM; Device Package: 8-TSSOP (0.173", 4.40mm Width); Operating Temperature: -40C ~ 85C; Memory Type: EEPROM; Memory Size: 512K (64K x 8); Speed: 20MHz
footprint ON SEMI TSSOP-8
pins: 1 CS, 2 SCLK, 3 MOSI, 4 MISO, 5 GND, 6 ORG, 8 VCC

## CAT25640VI-GT3
designator IC?, comment 64K (8K x 8)
IC EEPROM 64KBIT 20MHZ 8SOIC; Part Number: CAT25640VI-GT3; Manufacturer: ON Semiconductor; Interface: SPI Serial; Voltage - Supply: 1.8 V ~ 5.5 V; PartId: 8417; Supplier 1: Digi-Key; Supplier Part Number 1: CAT25640VI-GT3OSTR-ND; ComponentLink1Description: Datasheet; ComponentLink1URL: http://www.onsemi.com/pub_link/Collateral/CAT25640-D.PDF; ComponentLink2Description: Digi-Key Listing; ComponentLink2URL: http://www.digikey.com/product-detail/en/CAT25640VI-GT3/CAT25640VI-GT3OSTR-ND/1770454; Price: 0.2251; Type: EEPROM; Device Package: 8-SOIC (0.154", 3.90mm Width); Operating Temperature: -40C ~ 85C; Memory Type: EEPROM; Memory Size: 64K (8K x 8); Speed: 20MHz
footprint ON SEMI SO-8
pins: 1 CS, 2 SCLK, 3 MOSI, 4 MISO, 5 GND, 6 ORG, 8 VCC

## CAV24C04YE-GT3
designator IC?, comment 4K (512 x 8)
IC EEPROM 4KBIT 400KHZ 8TSSOP; Part Number: CAV24C04YE-GT3; Manufacturer: ON Semiconductor; Speed: 100kHz, 400kHz; Interface: IC, 2-Wire Serial; Voltage - Supply: 2.5 V ~ 5.5 V; PartId: 8313; Supplier 1: Digi-Key; Supplier Part Number 1: CAV24C04YE-GT3OSTR-ND; ComponentLink1Description: Datasheet; ComponentLink1URL: http://www.onsemi.com/pub_link/Collateral/CAV24C04-D.PDF; ComponentLink2Description: Digi-Key Listing; ComponentLink2URL: http://www.digikey.com/product-detail/en/CAV24C04YE-GT3/CAV24C04YE-GT3OSTR-ND/2683768; Price: 0.2222; Type: EEPROM; Device Package: 8-TSSOP (0.173", 4.40mm Width); Operating Temperature: -40C ~ 125C; Memory Type: EEPROM; Memory Size: 4K (512 x 8)
footprint ON SEMI TSSOP-8
pins: 1 A0, 2 A1, 3 A2, 4 GND, 5 SDA, 6 SCL, 7 ~{WP}, 8 VCC

## CAV24C16WE-GT3
designator IC?, comment 16K (2K x 8)
IC EEPROM 16KBIT 400KHZ 8SOIC; Part Number: CAV24C16WE-GT3; Manufacturer: ON Semiconductor; Speed: 100kHz, 400kHz; Interface: IC, 2-Wire Serial; Voltage - Supply: 2.5 V ~ 5.5 V; PartId: 8374; Supplier 1: Digi-Key; Supplier Part Number 1: CAV24C16WE-GT3OSTR-ND; ComponentLink1Description: Datasheet; ComponentLink1URL: http://www.onsemi.com/pub_link/Collateral/CAV24C16-D.PDF; ComponentLink2Description: Digi-Key Listing; ComponentLink2URL: http://www.digikey.com/product-detail/en/CAV24C16WE-GT3/CAV24C16WE-GT3OSTR-ND/2698338; Price: 0.2668; Type: EEPROM; Device Package: 8-SOIC (0.154", 3.90mm Width); Operating Temperature: -40C ~ 125C; Memory Type: EEPROM; Memory Size: 16K (2K x 8)
footprint ON SEMI SO-8
pins: 1 A0, 2 A1, 3 A2, 4 GND, 5 SDA, 6 SCL, 7 ~{WP}, 8 VCC

## CAV24C64WE-GT3
designator IC?, comment 64K (8K x 8)
IC EEPROM 64KBIT 400KHZ 8SOIC; Part Number: CAV24C64WE-GT3; Manufacturer: ON Semiconductor; Speed: 100kHz, 400kHz; Interface: IC, 2-Wire Serial; Voltage - Supply: 2.5 V ~ 5.5 V; PartId: 8377; Supplier 1: Digi-Key; Supplier Part Number 1: CAV24C64WE-GT3OSTR-ND; ComponentLink1Description: Datasheet; ComponentLink1URL: http://www.onsemi.com/pub_link/Collateral/CAV24C64-D.PDF; ComponentLink2Description: Digi-Key Listing; ComponentLink2URL: http://www.digikey.com/product-detail/en/CAV24C64WE-GT3/CAV24C64WE-GT3OSTR-ND/2698340; Price: 0.3862; Type: EEPROM; Device Package: 8-SOIC (0.154", 3.90mm Width); Operating Temperature: -40C ~ 125C; Memory Type: EEPROM; Memory Size: 64K (8K x 8)
footprint ON SEMI SO-8
pins: 1 A0, 2 A1, 3 A2, 4 GND, 5 SDA, 6 SCL, 7 ~{WP}, 8 VCC

## CAV25160YE-GT3
designator IC?, comment 16K (2K x 8)
IC EEPROM 16KBIT 10MHZ 8TSSOP; Part Number: CAV25160YE-GT3; Manufacturer: ON Semiconductor; Interface: SPI Serial; Voltage - Supply: 2.5 V ~ 5.5 V; PartId: 8441; Supplier 1: Digi-Key; Supplier Part Number 1: CAV25160YE-GT3OSTR-ND; ComponentLink1Description: Datasheet; ComponentLink1URL: http://www.onsemi.com/pub_link/Collateral/CAV25080-D.PDF; ComponentLink2Description: Digi-Key Listing; ComponentLink2URL: http://www.digikey.com/product-detail/en/CAV25160YE-GT3/CAV25160YE-GT3OSTR-ND/3062050; Price: 0.4254; Type: EEPROM; Device Package: 8-TSSOP (0.173", 4.40mm Width); Operating Temperature: -40C ~ 125C; Memory Type: EEPROM; Memory Size: 16K (2K x 8); Speed: 10MHz
footprint ON SEMI TSSOP-8
pins: 1 CS, 2 SCLK, 3 MOSI, 4 MISO, 5 GND, 6 ORG, 8 VCC

## M24C01-RDW6TP
designator IC?, comment 1K (128 x 8)
IC EEPROM 1KBIT 400KHZ 8TSSOP; Part Number: M24C01-RDW6TP; Manufacturer: STMicroelectronics; Interface: IC, 2-Wire Serial; Voltage - Supply: 1.8 V ~ 5.5 V; PartId: 8295; Supplier 1: Digi-Key; Supplier Part Number 1: 497-8628-2-ND; ComponentLink1Description: Datasheet; ComponentLink1URL: http://www.st.com/web/en/resource/technical/document/datasheet/DM00071904.pdf; ComponentLink2Description: Digi-Key Listing; ComponentLink2URL: http://www.digikey.com/product-detail/en/M24C01-RDW6TP/497-8628-2-ND/1663553; Price: 0.0982; Type: EEPROM; Device Package: 8-TSSOP (0.173", 4.40mm Width); Operating Temperature: -40C ~ 85C; Memory Type: EEPROM; Memory Size: 1K (128 x 8); Speed: 400kHz
footprint ST TSSOP-8
pins: 1 E0, 2 E1, 3 E2, 4 GND, 5 SDA, 6 SCL, 7 ~{WC}, 8 VCC

## M24C01-RMN6TP
designator IC?, comment 1K (128 x 8)
IC EEPROM 1KBIT 400KHZ 8SO; Part Number: M24C01-RMN6TP; Manufacturer: STMicroelectronics; Interface: IC, 2-Wire Serial; Voltage - Supply: 1.8 V ~ 5.5 V; PartId: 8335; Supplier 1: Digi-Key; Supplier Part Number 1: 497-8629-2-ND; ComponentLink1Description: Datasheet; ComponentLink1URL: http://www.st.com/web/en/resource/technical/document/datasheet/DM00071904.pdf; ComponentLink2Description: Digi-Key Listing; ComponentLink2URL: http://www.digikey.com/product-detail/en/M24C01-RMN6TP/497-8629-2-ND/1663555; Price: 0.098; Type: EEPROM; Device Package: 8-SOIC (0.154", 3.90mm Width); Operating Temperature: -40C ~ 85C; Memory Type: EEPROM; Memory Size: 1K (128 x 8); Speed: 400kHz
footprint ST SOIC-8N
pins: 1 E0, 2 E1, 3 E2, 4 GND, 5 SDA, 6 SCL, 7 ~{WC}, 8 VCC

## M24C01-WMN6TP/S
designator IC?, comment 1K (128 x 8)
IC EEPROM 1KBIT 400KHZ 8SO; Part Number: M24C01-WMN6TP/S; Manufacturer: STMicroelectronics; Interface: IC, 2-Wire Serial; Voltage - Supply: 2.5 V ~ 5.5 V; PartId: 8351; Supplier 1: Digi-Key; Supplier Part Number 1: 497-8632-2-ND; ComponentLink1Description: Datasheet; ComponentLink1URL: http://www.st.com/web/en/resource/technical/document/datasheet/DM00071904.pdf; ComponentLink2Description: Digi-Key Listing; ComponentLink2URL: http://www.digikey.com/product-detail/en/M24C01-WMN6TP%2FS/497-8632-2-ND/1663561; Price: 0.2451; Type: EEPROM; Device Package: 8-SOIC (0.154", 3.90mm Width); Operating Temperature: -40C ~ 85C; Memory Type: EEPROM; Memory Size: 1K (128 x 8); Speed: 400kHz
footprint ST SOIC-8N
pins: 1 E0, 2 E1, 3 E2, 4 GND, 5 SDA, 6 SCL, 7 ~{WC}, 8 VCC

## M24C02-DRDW3TP/K
designator IC?, comment 2K (256 x 8)
IC EEPROM 2KB SRL I2C 8TSSOP; Part Number: M24C02-DRDW3TP/K; Manufacturer: STMicroelectronics; Speed: 400kHz; Interface: IC, 2-Wire Serial; Voltage - Supply: 1.8 V ~ 5.5 V; PartId: 8303; Supplier 1: Digi-Key; Supplier Part Number 1: 497-15729-2-ND; ComponentLink1Description: Datasheet; ComponentLink1URL: http://www.st.com/web/en/resource/technical/document/datasheet/DM00104266.pdf; ComponentLink2Description: Digi-Key Listing; ComponentLink2URL: http://www.digikey.com/product-detail/en/M24C02-DRDW3TP%2FK/497-15729-2-ND/5283400; Price: 0.1826; Type: EEPROM; Device Package: 8-TSSOP (0.173", 4.40mm Width); Operating Temperature: -40C ~ 125C; Memory Type: EEPROM; Memory Size: 2K (256 x 8)
footprint ST TSSOP-8
pins: 1 E0, 2 E1, 3 E2, 4 GND, 5 SDA, 6 SCL, 7 ~{WC}, 8 VCC

## M24C02-DRDW8TP/K
designator IC?, comment 2K (256 x 8)
IC EEPROM 2KB SER I2C 8TSSOP; Part Number: M24C02-DRDW8TP/K; Manufacturer: STMicroelectronics; Speed: 400kHz; Interface: IC, 2-Wire Serial; Voltage - Supply: 1.8 V ~ 5.5 V; PartId: 8298; Supplier 1: Digi-Key; Supplier Part Number 1: 497-15342-2-ND; ComponentLink1Description: Datasheet; ComponentLink1URL: http://www.st.com/web/en/resource/technical/document/datasheet/DM00157643.pdf; ComponentLink2Description: Digi-Key Listing; ComponentLink2URL: http://www.digikey.com/product-detail/en/M24C02-DRDW8TP%2FK/497-15342-2-ND/5175392; Price: 0.1166; Type: EEPROM; Device Package: 8-TSSOP (0.173", 4.40mm Width); Operating Temperature: -40C ~ 105C; Memory Type: EEPROM; Memory Size: 2K (256 x 8)
footprint ST TSSOP-8
pins: 1 E0, 2 E1, 3 E2, 4 GND, 5 SDA, 6 SCL, 7 ~{WC}, 8 VCC

## M24C02-DRMN3TP/K
designator IC?, comment 2K (256 x 8)
IC EEPROM 2KB SRL I2C 8SOIC; Part Number: M24C02-DRMN3TP/K; Manufacturer: STMicroelectronics; Speed: 400kHz; Interface: IC, 2-Wire Serial; Voltage - Supply: 1.8 V ~ 5.5 V; PartId: 8346; Supplier 1: Digi-Key; Supplier Part Number 1: 497-15730-2-ND; ComponentLink1Description: Datasheet; ComponentLink1URL: http://www.st.com/web/en/resource/technical/document/datasheet/DM00104266.pdf; ComponentLink2Description: Digi-Key Listing; ComponentLink2URL: http://www.digikey.com/product-detail/en/M24C02-DRMN3TP%2FK/497-15730-2-ND/5283401; Price: 0.1944; Type: EEPROM; Device Package: 8-SOIC (0.154", 3.90mm Width); Operating Temperature: -40C ~ 125C; Memory Type: EEPROM; Memory Size: 2K (256 x 8)
footprint ST SOIC-8N
pins: 1 E0, 2 E1, 3 E2, 4 GND, 5 SDA, 6 SCL, 7 ~{WC}, 8 VCC

## M24C02-DRMN8TP/K
designator IC?, comment 2K (256 x 8)
IC EEPROM 2KB SER I2C 8SOIC; Part Number: M24C02-DRMN8TP/K; Manufacturer: STMicroelectronics; Speed: 400kHz; Interface: IC, 2-Wire Serial; Voltage - Supply: 1.8 V ~ 5.5 V; PartId: 8339; Supplier 1: Digi-Key; Supplier Part Number 1: 497-15343-2-ND; ComponentLink1Description: Datasheet; ComponentLink1URL: http://www.st.com/web/en/resource/technical/document/datasheet/DM00157643.pdf; ComponentLink2Description: Digi-Key Listing; ComponentLink2URL: http://www.digikey.com/product-detail/en/M24C02-DRMN8TP%2FK/497-15343-2-ND/5175393; Price: 0.1241; Type: EEPROM; Device Package: 8-SOIC (0.154", 3.90mm Width); Operating Temperature: -40C ~ 105C; Memory Type: EEPROM; Memory Size: 2K (256 x 8)
footprint ST SOIC-8N
pins: 1 E0, 2 E1, 3 E2, 4 GND, 5 SDA, 6 SCL, 7 ~{WC}, 8 VCC

## M24C02-FDW6TP
designator IC?, comment 2K (256 x 8)
IC EEPROM 2KBIT 400KHZ TSSOP8; Part Number: M24C02-FDW6TP; Manufacturer: STMicroelectronics; Interface: I2C, 2-Wire Serial; Voltage - Supply: 1.7 V ~ 5.5 V; PartId: 8293; Supplier 1: Digi-Key; Supplier Part Number 1: 497-15746-2-ND; ComponentLink1Description: Datasheet; ComponentLink1URL: http://www.st.com/web/en/resource/technical/document/datasheet/DM00071904.pdf; ComponentLink2Description: Digi-Key Listing; ComponentLink2URL: http://www.digikey.com/product-detail/en/M24C02-FDW6TP/497-15746-2-ND/4729277; Price: 0.0844; Type: EEPROM; Device Package: 8-TSSOP (0.173", 4.40mm Width); Operating Temperature: -40C ~ 85C; Memory Type: EEPROM; Memory Size: 2K (256 x 8); Speed: 400kHz
footprint ST TSSOP-8
pins: 1 E0, 2 E1, 3 E2, 4 GND, 5 SDA, 6 SCL, 7 ~{WC}, 8 VCC

## M24C02-FMN6TP
designator IC?, comment 2K (256 x 8)
IC EEPROM 2KBIT 400KHZ 8SO; Part Number: M24C02-FMN6TP; Manufacturer: STMicroelectronics; Interface: IC, 2-Wire Serial; Voltage - Supply: 1.7 V ~ 5.5 V; PartId: 8333; Supplier 1: Digi-Key; Supplier Part Number 1: 497-15748-2-ND; ComponentLink1Description: Datasheet; ComponentLink1URL: http://www.st.com/web/en/resource/technical/document/datasheet/DM00071904.pdf; ComponentLink2Description: Digi-Key Listing; ComponentLink2URL: http://www.digikey.com/product-detail/en/M24C02-FMN6TP/497-15748-2-ND/4729279; Price: 0.0898; Type: EEPROM; Device Package: 8-SOIC (0.154", 3.90mm Width); Operating Temperature: -40C ~ 85C; Memory Type: EEPROM; Memory Size: 2K (256 x 8); Speed: 400kHz
footprint ST SOIC-8N
pins: 1 E0, 2 E1, 3 E2, 4 GND, 5 SDA, 6 SCL, 7 ~{WC}, 8 VCC

## M24C02-WMN6TP
designator IC?, comment 2K (256 x 8)
IC EEPROM 2KBIT 400KHZ 8SO; Part Number: M24C02-WMN6TP; Manufacturer: STMicroelectronics; Interface: IC, 2-Wire Serial; Voltage - Supply: 2.5 V ~ 5.5 V; PartId: 8334; Supplier 1: Digi-Key; Supplier Part Number 1: 497-8552-2-ND; ComponentLink1Description: Datasheet; ComponentLink1URL: http://www.st.com/web/en/resource/technical/document/datasheet/DM00071904.pdf; ComponentLink2Description: Digi-Key Listing; ComponentLink2URL: http://www.digikey.com/product-detail/en/M24C02-WMN6TP/497-8552-2-ND/1663568; Price: 0.0915; Type: EEPROM; Device Package: 8-SOIC (0.154", 3.90mm Width); Operating Temperature: -40C ~ 85C; Memory Type: EEPROM; Memory Size: 2K (256 x 8); Speed: 400kHz
footprint ST SOIC-8N
pins: 1 E0, 2 E1, 3 E2, 4 GND, 5 SDA, 6 SCL, 7 ~{WC}, 8 VCC

## M24C04-DRMN8TP/K
designator IC?, comment 4K (512 x 8)
IC EEPROM 4KB SER I2C 8SOIC; Part Number: M24C04-DRMN8TP/K; Manufacturer: STMicroelectronics; Speed: 400kHz; Interface: IC, 2-Wire Serial; Voltage - Supply: 1.8 V ~ 5.5 V; PartId: 8344; Supplier 1: Digi-Key; Supplier Part Number 1: 497-15345-2-ND; ComponentLink1Description: Datasheet; ComponentLink1URL: http://www.st.com/web/en/resource/technical/document/datasheet/DM00157645.pdf; ComponentLink2Description: Digi-Key Listing; ComponentLink2URL: http://www.digikey.com/product-detail/en/M24C04-DRMN8TP%2FK/497-15345-2-ND/5175395; Price: 0.1552; Type: EEPROM; Device Package: 8-SOIC (0.154", 3.90mm Width); Operating Temperature: -40C ~ 105C; Memory Type: EEPROM; Memory Size: 4K (512 x 8)
footprint ST SOIC-8N
pins: 1 E0, 2 E1, 3 E2, 4 GND, 5 SDA, 6 SCL, 7 ~{WC}, 8 VCC

## M24C04-FDW6TP
designator IC?, comment 4K (512 x 8)
IC EEPROM 4KBIT 400KHZ TSSOP8; Part Number: M24C04-FDW6TP; Manufacturer: STMicroelectronics; Interface: IC, 2-Wire Serial; Voltage - Supply: 1.7 V ~ 5.5 V; PartId: 8299; Supplier 1: Digi-Key; Supplier Part Number 1: 497-15749-2-ND; ComponentLink1Description: Datasheet; ComponentLink1URL: http://www.st.com/web/en/resource/technical/document/datasheet/DM00071277.pdf; ComponentLink2Description: Digi-Key Listing; ComponentLink2URL: http://www.digikey.com/product-detail/en/M24C04-FDW6TP/497-15749-2-ND/4729280; Price: 0.1228; Type: EEPROM; Device Package: 8-TSSOP (0.173", 4.40mm Width); Operating Temperature: -40C ~ 85C; Memory Type: EEPROM; Memory Size: 4K (512 x 8); Speed: 400kHz
footprint ST TSSOP-8
pins: 1 E0, 2 E1, 3 E2, 4 GND, 5 SDA, 6 SCL, 7 ~{WC}, 8 VCC

## M24C04-WMN6TP
designator IC?, comment 4K (512 x 8)
IC EEPROM 4KBIT 400KHZ 8SO; Part Number: M24C04-WMN6TP; Manufacturer: STMicroelectronics; Interface: IC, 2-Wire Serial; Voltage - Supply: 2.5 V ~ 5.5 V; PartId: 8332; Supplier 1: Digi-Key; Supplier Part Number 1: 1026-M24C04-WMN6TP-CHP; ComponentLink1Description: Datasheet; ComponentLink1URL: http://www.st.com/web/en/resource/technical/document/datasheet/DM00071277.pdf; ComponentLink2Description: Digi-Key Listing; ComponentLink2URL: http://www.digikey.com/product-detail/en/M24C04-WMN6TP/1026-M24C04-WMN6TP-CHP/2521225; Price: 0.0856; Type: EEPROM; Device Package: 8-SOIC (0.154", 3.90mm Width); Operating Temperature: -40C ~ 85C; Memory Type: EEPROM; Memory Size: 4K (512 x 8); Speed: 400kHz
footprint ST SOIC-8N
pins: 1 E0, 2 E1, 3 E2, 4 GND, 5 SDA, 6 SCL, 7 ~{WC}, 8 VCC

## M24C08-FMN6TP
designator IC?, comment 8K (1K x 8)
IC EEPROM 8KBIT 400KHZ 8SO; Part Number: M24C08-FMN6TP; Manufacturer: STMicroelectronics; Interface: IC, 2-Wire Serial; Voltage - Supply: 1.7 V ~ 5.5 V; PartId: 8338; Supplier 1: Digi-Key; Supplier Part Number 1: 497-15752-2-ND; ComponentLink1Description: Datasheet; ComponentLink1URL: http://www.st.com/web/en/resource/technical/document/datasheet/DM00070057.pdf; ComponentLink2Description: Digi-Key Listing; ComponentLink2URL: http://www.digikey.com/product-detail/en/M24C08-FMN6TP/497-15752-2-ND/4729285; Price: 0.1209; Type: EEPROM; Device Package: 8-SOIC (0.154", 3.90mm Width); Operating Temperature: -40C ~ 85C; Memory Type: EEPROM; Memory Size: 8K (1K x 8); Speed: 400kHz
footprint ST SOIC-8N
pins: 1 E0, 2 E1, 3 E2, 4 GND, 5 SDA, 6 SCL, 7 ~{WC}, 8 VCC

## M24C08-RDW6TP
designator IC?, comment 8K (1K x 8)
IC EEPROM 8KBIT 400KHZ 8TSSOP; Part Number: M24C08-RDW6TP; Manufacturer: STMicroelectronics; Interface: IC, 2-Wire Serial; Voltage - Supply: 1.8 V ~ 5.5 V; PartId: 8297; Supplier 1: Digi-Key; Supplier Part Number 1: 497-8636-2-ND; ComponentLink1Description: Datasheet; ComponentLink1URL: http://www.st.com/web/en/resource/technical/document/datasheet/DM00070057.pdf; ComponentLink2Description: Digi-Key Listing; ComponentLink2URL: http://www.digikey.com/product-detail/en/M24C08-RDW6TP/497-8636-2-ND/1663579; Price: 0.112; Type: EEPROM; Device Package: 8-TSSOP (0.173", 4.40mm Width); Operating Temperature: -40C ~ 85C; Memory Type: EEPROM; Memory Size: 8K (1K x 8); Speed: 400kHz
footprint ST TSSOP-8
pins: 1 E0, 2 E1, 3 E2, 4 GND, 5 SDA, 6 SCL, 7 ~{WC}, 8 VCC

## M24C08-RMN6TP
designator IC?, comment 8K (1K x 8)
IC EEPROM 8KBIT 400KHZ 8SO; Part Number: M24C08-RMN6TP; Manufacturer: STMicroelectronics; Interface: IC, 2-Wire Serial; Voltage - Supply: 1.8 V ~ 5.5 V; PartId: 8337; Supplier 1: Digi-Key; Supplier Part Number 1: 497-8637-2-ND; ComponentLink1Description: Datasheet; ComponentLink1URL: http://www.st.com/web/en/resource/technical/document/datasheet/DM00070057.pdf; ComponentLink2Description: Digi-Key Listing; ComponentLink2URL: http://www.digikey.com/product-detail/en/M24C08-RMN6TP/497-8637-2-ND/1663582; Price: 0.116; Type: EEPROM; Device Package: 8-SOIC (0.154", 3.90mm Width); Operating Temperature: -40C ~ 85C; Memory Type: EEPROM; Memory Size: 8K (1K x 8); Speed: 400kHz
footprint ST SOIC-8N
pins: 1 E0, 2 E1, 3 E2, 4 GND, 5 SDA, 6 SCL, 7 ~{WC}, 8 VCC

## M24C08-WDW6TP
designator IC?, comment 8K (1K x 8)
IC EEPROM 8KBIT 400KHZ 8TSSOP; Part Number: M24C08-WDW6TP; Manufacturer: STMicroelectronics; Interface: IC, 2-Wire Serial; Voltage - Supply: 2.5 V ~ 5.5 V; PartId: 8296; Supplier 1: Digi-Key; Supplier Part Number 1: 497-8638-2-ND; ComponentLink1Description: Datasheet; ComponentLink1URL: http://www.st.com/web/en/resource/technical/document/datasheet/DM00070057.pdf; ComponentLink2Description: Digi-Key Listing; ComponentLink2URL: http://www.digikey.com/product-detail/en/M24C08-WDW6TP/497-8638-2-ND/1663585; Price: 0.112; Type: EEPROM; Device Package: 8-TSSOP (0.173", 4.40mm Width); Operating Temperature: -40C ~ 85C; Memory Type: EEPROM; Memory Size: 8K (1K x 8); Speed: 400kHz
footprint ST TSSOP-8
pins: 1 E0, 2 E1, 3 E2, 4 GND, 5 SDA, 6 SCL, 7 ~{WC}, 8 VCC

## M24C08-WMN6TP
designator IC?, comment 8K (1K x 8)
IC EEPROM 8KBIT 400KHZ 8SO; Part Number: M24C08-WMN6TP; Manufacturer: STMicroelectronics; Interface: IC, 2-Wire Serial; Voltage - Supply: 2.5 V ~ 5.5 V; PartId: 8336; Supplier 1: Digi-Key; Supplier Part Number 1: 497-8554-2-ND; ComponentLink1Description: Datasheet; ComponentLink1URL: http://www.st.com/web/en/resource/technical/document/datasheet/DM00070057.pdf; ComponentLink2Description: Digi-Key Listing; ComponentLink2URL: http://www.digikey.com/product-detail/en/M24C08-WMN6TP/497-8554-2-ND/699574; Price: 0.116; Type: EEPROM; Device Package: 8-SOIC (0.154", 3.90mm Width); Operating Temperature: -40C ~ 85C; Memory Type: EEPROM; Memory Size: 8K (1K x 8); Speed: 400kHz
footprint ST SOIC-8N
pins: 1 E0, 2 E1, 3 E2, 4 GND, 5 SDA, 6 SCL, 7 ~{WC}, 8 VCC

## M24C16-DRDW8TP/K
designator IC?, comment 16K (2K x 8)
IC EEPROM 16KB SER I2C 8TSSOP; Part Number: M24C16-DRDW8TP/K; Manufacturer: STMicroelectronics; Speed: 400kHz; Interface: IC, 2-Wire Serial; Voltage - Supply: 1.7 V ~ 5.5 V; PartId: 8304; Supplier 1: Digi-Key; Supplier Part Number 1: 497-15348-2-ND; ComponentLink1Description: Datasheet; ComponentLink1URL: http://www.st.com/web/en/resource/technical/document/datasheet/DM00149700.pdf; ComponentLink2Description: Digi-Key Listing; ComponentLink2URL: http://www.digikey.com/product-detail/en/M24C16-DRDW8TP%2FK/497-15348-2-ND/5175398; Price: 0.1918; Type: EEPROM; Device Package: 8-TSSOP (0.173", 4.40mm Width); Operating Temperature: -40C ~ 105C; Memory Type: EEPROM; Memory Size: 16K (2K x 8)
footprint ST TSSOP-8
pins: 1 E0, 2 E1, 3 E2, 4 GND, 5 SDA, 6 SCL, 7 ~{WC}, 8 VCC

## M24C16-FMN6TP
designator IC?, comment 16K (2K x 8)
IC EEPROM 16KBIT 400KHZ 8SOIC; Part Number: M24C16-FMN6TP; Manufacturer: STMicroelectronics; Interface: IC, 2-Wire Serial; Voltage - Supply: 1.7 V ~ 5.5 V; PartId: 8341; Supplier 1: Digi-Key; Supplier Part Number 1: 497-15754-2-ND; ComponentLink1Description: Datasheet; ComponentLink1URL: http://www.st.com/web/en/resource/technical/document/datasheet/DM00061111.pdf; ComponentLink2Description: Digi-Key Listing; ComponentLink2URL: http://www.digikey.com/product-detail/en/M24C16-FMN6TP/497-15754-2-ND/4357384; Price: 0.1307; Type: EEPROM; Device Package: 8-SOIC (0.154", 3.90mm Width); Operating Temperature: -40C ~ 85C; Memory Type: EEPROM; Memory Size: 16K (2K x 8); Speed: 400kHz
footprint ST SOIC-8N
pins: 1 E0, 2 E1, 3 E2, 4 GND, 5 SDA, 6 SCL, 7 ~{WC}, 8 VCC

## M24C16-RMN6TP
designator IC?, comment 16K (2K x 8)
IC EEPROM 16KBIT 400KHZ 8SO; Part Number: M24C16-RMN6TP; Manufacturer: STMicroelectronics; Interface: IC, 2-Wire Serial; Voltage - Supply: 1.8 V ~ 5.5 V; PartId: 8340; Supplier 1: Digi-Key; Supplier Part Number 1: 497-8640-2-ND; ComponentLink1Description: Datasheet; ComponentLink1URL: http://www.st.com/web/en/resource/technical/document/datasheet/DM00061111.pdf; ComponentLink2Description: Digi-Key Listing; ComponentLink2URL: http://www.digikey.com/product-detail/en/M24C16-RMN6TP/497-8640-2-ND/1663593; Price: 0.1274; Type: EEPROM; Device Package: 8-SOIC (0.154", 3.90mm Width); Operating Temperature: -40C ~ 85C; Memory Type: EEPROM; Memory Size: 16K (2K x 8); Speed: 400kHz
footprint ST SOIC-8N
pins: 1 E0, 2 E1, 3 E2, 4 GND, 5 SDA, 6 SCL, 7 ~{WC}, 8 VCC

## M24C32-DFMN6TP
designator IC?, comment 32K (4K x 8)
IC EEPROM 32KBIT 400KHZ 8SOIC; Part Number: M24C32-DFMN6TP; Manufacturer: STMicroelectronics; Interface: IC, 2-Wire Serial; Voltage - Supply: 1.7 V ~ 5.5 V; PartId: 8347; Supplier 1: Digi-Key; Supplier Part Number 1: 497-15755-2-ND; ComponentLink1Description: Datasheet; ComponentLink1URL: http://www.st.com/web/en/resource/technical/document/datasheet/CD00001012.pdf; ComponentLink2Description: Digi-Key Listing; ComponentLink2URL: http://www.digikey.com/product-detail/en/M24C32-DFMN6TP/497-15755-2-ND/4357387; Price: 0.1944; Type: EEPROM; Device Package: 8-SOIC (0.154", 3.90mm Width); Operating Temperature: -40C ~ 85C; Memory Type: EEPROM; Memory Size: 32K (4K x 8); Speed: 400kHz
footprint ST SOIC-8N
pins: 1 E0, 2 E1, 3 E2, 4 GND, 5 SDA, 6 SCL, 7 ~{WC}, 8 VCC

## M24C32-DRMN8TP/K
designator IC?, comment 32K (4K x 8)
IC EEPROM 32KB SER I2C 8SOIC; Part Number: M24C32-DRMN8TP/K; Manufacturer: STMicroelectronics; Speed: 1MHz; Interface: IC, 2-Wire Serial; Voltage - Supply: 1.8 V ~ 5.5 V; PartId: 8348; Supplier 1: Digi-Key; Supplier Part Number 1: 497-15351-2-ND; ComponentLink1Description: Datasheet; ComponentLink1URL: http://www.st.com/web/en/resource/technical/document/datasheet/DM00157642.pdf; ComponentLink2Description: Digi-Key Listing; ComponentLink2URL: http://www.digikey.com/product-detail/en/M24C32-DRMN8TP%2FK/497-15351-2-ND/5175401; Price: 0.2075; Type: EEPROM; Device Package: 8-SOIC (0.154", 3.90mm Width); Operating Temperature: -40C ~ 105C; Memory Type: EEPROM; Memory Size: 32K (4K x 8)
footprint ST SOIC-8N
pins: 1 E0, 2 E1, 3 E2, 4 GND, 5 SDA, 6 SCL, 7 ~{WC}, 8 VCC

## M24C32-FDW6TP
designator IC?, comment 32K (4K x 8)
IC EEPROM 32KBIT 400KHZ 8TSSOP; Part Number: M24C32-FDW6TP; Manufacturer: STMicroelectronics; Interface: IC, 2-Wire Serial; Voltage - Supply: 1.7 V ~ 5.5 V; PartId: 8302; Supplier 1: Digi-Key; Supplier Part Number 1: 497-15756-2-ND; ComponentLink1Description: Datasheet; ComponentLink1URL: http://www.st.com/web/en/resource/technical/document/datasheet/CD00001012.pdf; ComponentLink2Description: Digi-Key Listing; ComponentLink2URL: http://www.digikey.com/product-detail/en/M24C32-FDW6TP/497-15756-2-ND/3455573; Price: 0.1673; Type: EEPROM; Device Package: 8-TSSOP (0.173", 4.40mm Width); Operating Temperature: -40C ~ 85C; Memory Type: EEPROM; Memory Size: 32K (4K x 8); Speed: 400kHz
footprint ST TSSOP-8
pins: 1 E0, 2 E1, 3 E2, 4 GND, 5 SDA, 6 SCL, 7 ~{WC}, 8 VCC

## M24C32-RMN6TP
designator IC?, comment 32K (4K x 8)
IC EEPROM 32KBIT 400KHZ 8SO; Part Number: M24C32-RMN6TP; Manufacturer: STMicroelectronics; Interface: IC, 2-Wire Serial; Voltage - Supply: 1.8 V ~ 5.5 V; PartId: 8343; Supplier 1: Digi-Key; Supplier Part Number 1: 497-8644-2-ND; ComponentLink1Description: Datasheet; ComponentLink1URL: http://www.st.com/web/en/resource/technical/document/datasheet/CD00001012.pdf; ComponentLink2Description: Digi-Key Listing; ComponentLink2URL: http://www.digikey.com/product-detail/en/M24C32-RMN6TP/497-8644-2-ND/1663601; Price: 0.1552; Type: EEPROM; Device Package: 8-SOIC (0.154", 3.90mm Width); Operating Temperature: -40C ~ 85C; Memory Type: EEPROM; Memory Size: 32K (4K x 8); Speed: 400kHz
footprint ST SOIC-8N
pins: 1 E0, 2 E1, 3 E2, 4 GND, 5 SDA, 6 SCL, 7 ~{WC}, 8 VCC

## M24C32-WDW6TP
designator IC?, comment 32K (4K x 8)
IC EEPROM 32KBIT 400KHZ 8TSSOP; Part Number: M24C32-WDW6TP; Manufacturer: STMicroelectronics; Interface: IC, 2-Wire Serial; Voltage - Supply: 2.5 V ~ 5.5 V; PartId: 8301; Supplier 1: Digi-Key; Supplier Part Number 1: 497-8645-2-ND; ComponentLink1Description: Datasheet; ComponentLink1URL: http://www.st.com/web/en/resource/technical/document/datasheet/CD00001012.pdf; ComponentLink2Description: Digi-Key Listing; ComponentLink2URL: http://www.digikey.com/product-detail/en/M24C32-WDW6TP/497-8645-2-ND/1663604; Price: 0.1535; Type: EEPROM; Device Package: 8-TSSOP (0.173", 4.40mm Width); Operating Temperature: -40C ~ 85C; Memory Type: EEPROM; Memory Size: 32K (4K x 8); Speed: 400kHz
footprint ST TSSOP-8
pins: 1 E0, 2 E1, 3 E2, 4 GND, 5 SDA, 6 SCL, 7 ~{WC}, 8 VCC

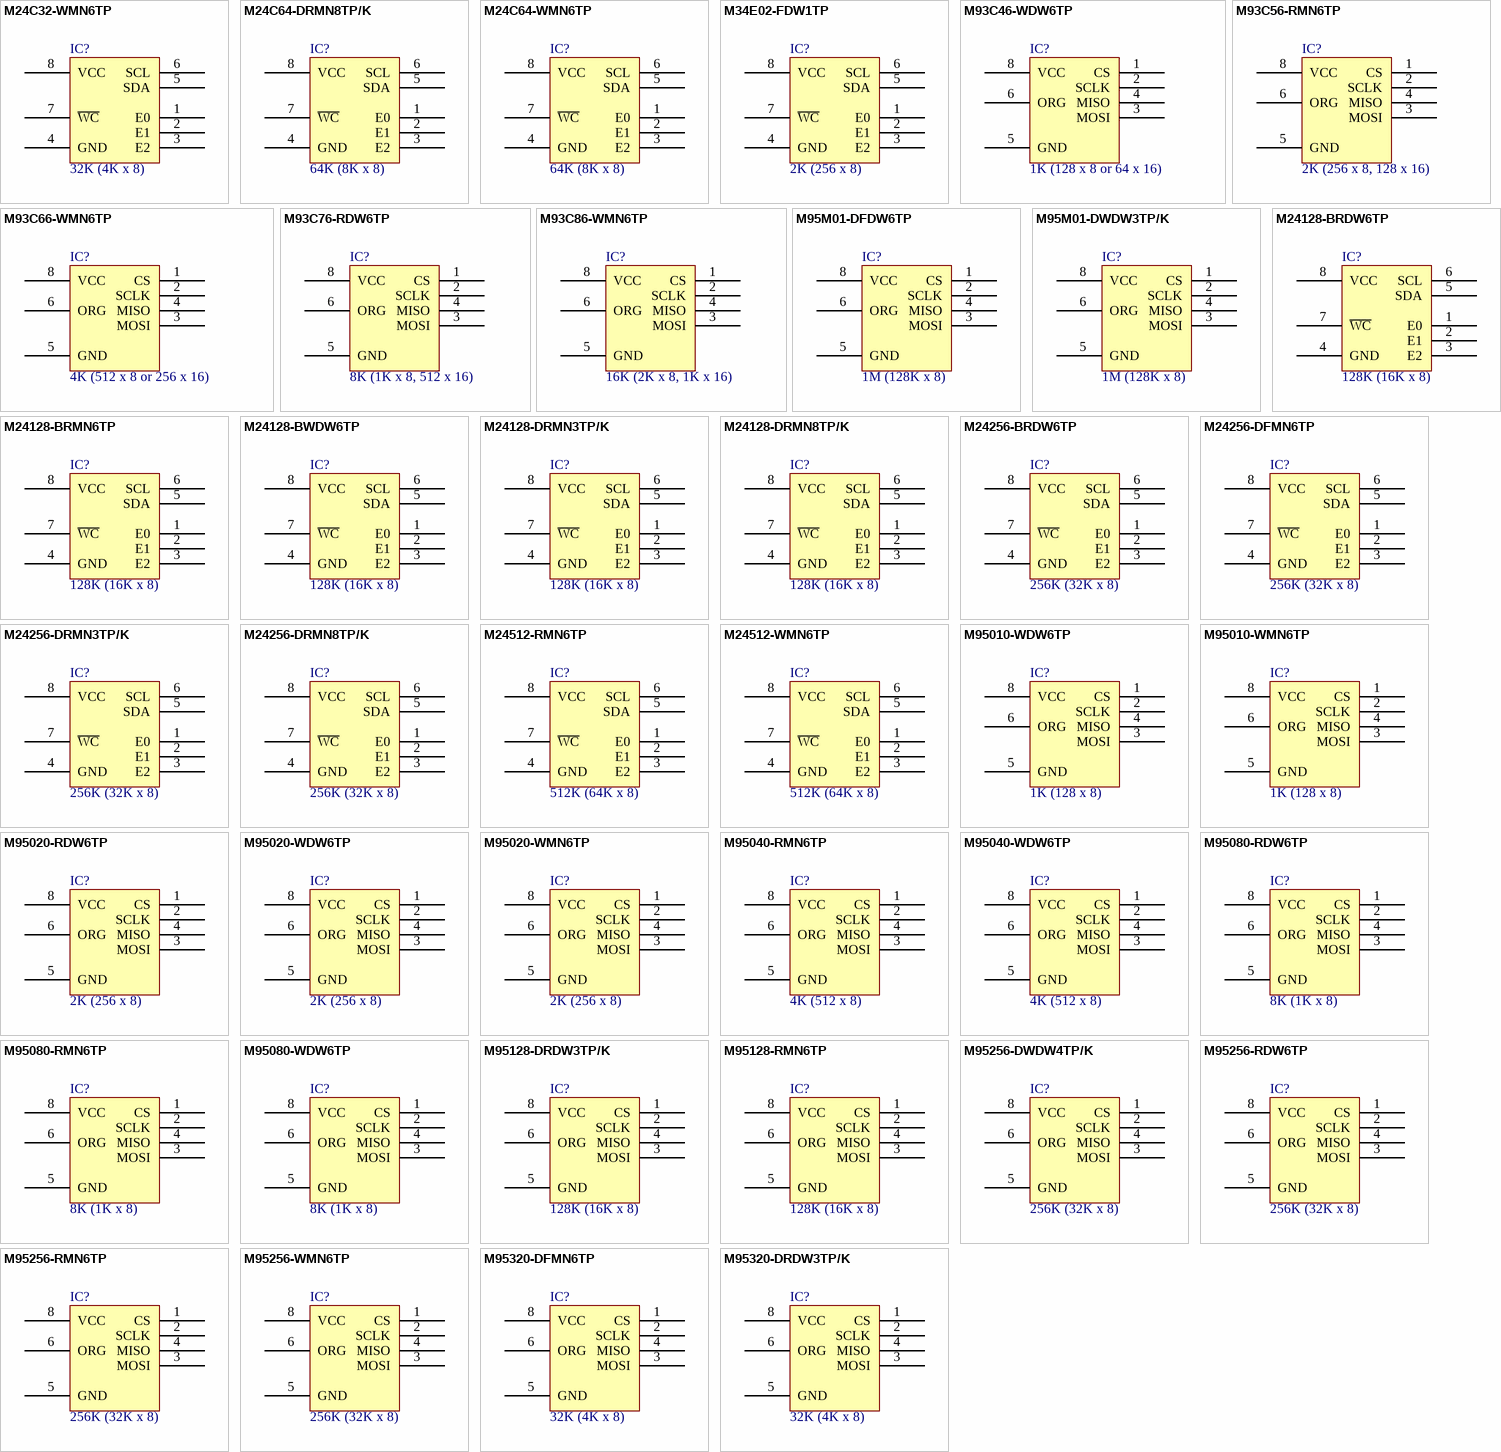
[diagram p3: symbols M24C32-WMN6TP to M95320-DRDW3TP/K]

## M24C32-WMN6TP
designator IC?, comment 32K (4K x 8)
IC EEPROM 32KBIT 400KHZ 8SO; Part Number: M24C32-WMN6TP; Manufacturer: STMicroelectronics; Interface: IC, 2-Wire Serial; Voltage - Supply: 2.5 V ~ 5.5 V; PartId: 8342; Supplier 1: Digi-Key; Supplier Part Number 1: 497-5027-2-ND; ComponentLink1Description: Datasheet; ComponentLink1URL: http://www.st.com/web/en/resource/technical/document/datasheet/CD00001012.pdf; ComponentLink2Description: Digi-Key Listing; ComponentLink2URL: http://www.digikey.com/product-detail/en/M24C32-WMN6TP/497-5027-2-ND/934070; Price: 0.1552; Type: EEPROM; Device Package: 8-SOIC (0.154", 3.90mm Width); Operating Temperature: -40C ~ 85C; Memory Type: EEPROM; Memory Size: 32K (4K x 8); Speed: 400kHz
footprint ST SOIC-8N
pins: 1 E0, 2 E1, 3 E2, 4 GND, 5 SDA, 6 SCL, 7 ~{WC}, 8 VCC